# Altium schematic symbol library TIDA-010086.SchLib: 12 symbols
Pins are listed as number, name and electrical type; pins without a type are passive.

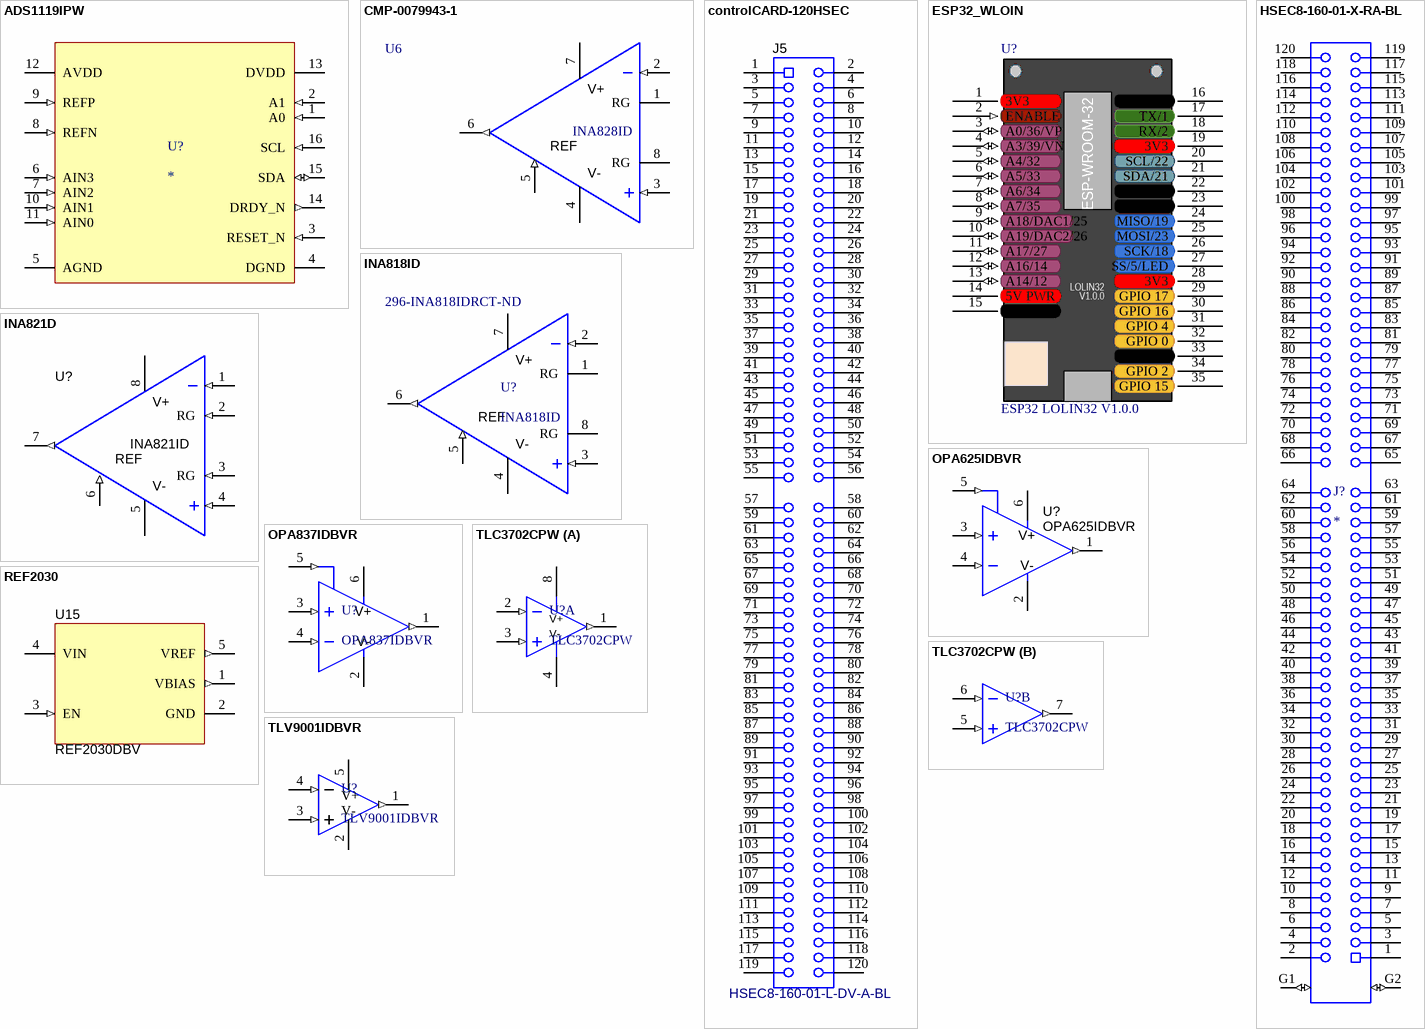
[diagram p0: symbols ADS1119IPW to TLV9001IDBVR]

## ADS1119IPW
designator U?
No Description Available; Manufacturer: Texas Instruments; PartNumber: ADS1119IPWR; RefDes: RefDes; Type: DEV; Value: Value; Copyright: Copyright (C) 2018 Accelerated Designs. All rights reserved
footprint PW0016A_N
footprint PW0016A_M
footprint PW0016A_L
pins: 1 A0 (in), 2 A1 (in), 3 RESET_N (in), 4 DGND (power), 5 AGND (power), 6 AIN3 (in), 7 AIN2 (in), 8 REFN (in), 9 REFP (in), 10 AIN1 (in), 11 AIN0 (in), 12 AVDD (power), 13 DVDD (power), 14 DRDY_N (out), 15 SDA (io), 16 SCL (in)

## CMP-0079943-1
designator U6, comment INA828ID
50-uV Offset, 7-nV/√Hz Noise, Low-Power, Precision Instrumentation Amplifier, D0008A (SOIC-8); Alternate PartNumber: INA828IDR; Alternate Manufacturer: Texas Instruments; SizeAreaWB_mm2: 56.58; SizeZ_mm: 1.75; SizeX_mm: 4.9; SizeY_mm: 6.2; SizeArea_mm2: 30.38; CompType: IC; AEC Qualified: N; AEC Category: Q200; ComponentLink1URL: http://www.ti.com/lit/ds/symlink/ina828.pdf; PackageDescription: SOIC-8; RoHS: Y; MountType: SMT; ComponentLink2URL: http://www.ti.com/product/ina828; ComponentLink3Description: Online Datasheet; ComponentLink2Description: Product Folder; Manufacturer: Texas Instruments; ComponentLink3URL: http://www.ti.com/product/ina828/datasheet; PackageReference: D0008A; ComponentLink1Description: Datasheet Link; PartNumber: INA828ID
footprint D0008A_N
footprint D0008A_M (SOIC, 8-Leads, Body 4.9x3.9mm, Pitch 1.27mm, IPC Low Density)
footprint D0008A_L (SOIC, 8-Leads, Body 4.9x3.9mm, Pitch 1.27mm, IPC High Density)
pins: 1 RG, 2 IN- (in), 3 IN+ (in), 4 V- (power), 5 REF (in), 6 OUT (out), 7 V+ (power), 8 RG
1 alternate drawing of the same symbol

## controlCARD-120HSEC
designator J5, comment HSEC8-160-01-L-DV-A-BL
C2000 controlCARD-120HSEC connector, SMT; Manufacturer: Samtec; Note: The pin numbering does not match Samtec datasheet; ComponentLink1URL: http://www.samtec.com/ftppub/pdf/hsec8_dv.pdf; CompType: Connector; PackageReference: C2000 pin numbering; RoHS: Y; MountType: SMT; PartNumber: HSEC8-160-01-L-DV-A-BL; ComponentLink1Description: Datasheet Link
footprint controlCARD-120HSEC (Pads are not numbered according to Samtec datasheet.)
pins: 1, 2, 3, 4, 5, 6, 7, 8, 9, 10, 11, 12, 13, 14, 15, 16, 17, 18, 19, 20, 21, 22, 23, 24, 25, 26, 27, 28, 29, 30, 31, 32, 33, 34, 35, 36, 37, 38, 39, 40, 41, 42, 43, 44, 45, 46, 47, 48, 49, 50, 51, 52, 53, 54, 55, 56, 57, 58, 59, 60, 61, 62, 63, 64, 65, 66, 67, 68, 69, 70, 71, 72, 73, 74, 75, 76, 77, 78, 79, 80, 81, 82, 83, 84, 85, 86, 87, 88, 89, 90, 91, 92, 93, 94, 95, 96, 97, 98, 99, 100, 101, 102, 103, 104, 105, 106, 107, 108, 109, 110, 111, 112, 113, 114, 115, 116, 117, 118, 119, 120

## ESP32_WLOIN
designator U?, comment ESP32 LOLIN32 V1.0.0
footprint ESP32_LOLIN32_V1 (WeMos LOLIN32 ESP32 Module)
pins: 1 3V3 (power), 2 ENABLE (in) "GPIO 12, I2C1_SCA", 3 A0/36/VP (io) "TWI0_SCL, PA11", 4 A3/39/VN (io) "PA6", 5 A4/32 (io) "GND", 6 A5/33 (io) "PA01", 7 A6/34 (io) "PA00", 8 A7/35 (io) "PA03", 9 A18/DAC1/25 (io), 10 A19/DAC2/26 (io) "PA15", 11 A17/27 (io) "PA16", 12 A16/14 (io) "PA14", 13 A14/12 (io) "GND", 14 5V PWR (power), 15 GND (power), 16 GND (power), 17 TX/1 (power), 18 RX/2 (power), 19 3V3 (power), 20 SCL/22 (power), 21 SDA/21 (power), 22 GND (power), 23 GND (power), 24 MISO/19 (power), 25 MOSI/23 (power), 26 SCK/18 (power), 27 SS/5/LED (power), 28 3V3 (power), 29 GPIO 17 (power), 30 GPIO 16 (power), 31 GPIO 4 (power), 32 GPIO 0 (power), 33 GND (power), 34 GPIO 2 (power), 35 GPIO 15 (power)
text: ESP-WROOM-32; LOLIN32; V1.0.0

## HSEC8-160-01-X-RA-BL
designator J?
0.8MM HIGH SPEED ASSEMBLY.; MP: HSEC8-160-01-X-RA-BL; Package: None; Price: None; Value: *; Availability: Unavailable
footprint HSEC8-160-01-X-RA-BL
pins: 1, 2, 3, 4, 5, 6, 7, 8, 9, 10, 11, 12, 13, 14, 15, 16, 17, 18, 19, 20, 21, 22, 23, 24, 25, 26, 27, 28, 29, 30, 31, 32, 33, 34, 35, 36, 37, 38, 39, 40, 41, 42, 43, 44, 45, 46, 47, 48, 49, 50, 51, 52, 53, 54, 55, 56, 57, 58, 59, 60, 61, 62, 63, 64, 65, 66, 67, 68, 69, 70, 71, 72, 73, 74, 75, 76, 77, 78, 79, 80, 81, 82, 83, 84, 85, 86, 87, 88, 89, 90, 91, 92, 93, 94, 95, 96, 97, 98, 99, 100, 101, 102, 103, 104, 105, 106, 107, 108, 109, 110, 111, 112, 113, 114, 115, 116, 117, 118, 119, 120, G1 121 (io), G2 122 (io)

## INA818ID
designator U?  Supplier Part Number 1: 296-INA818IDRCT-ND
Noise Low-Power Precision Instrumentation Amplifier 35uV Offset 8nV/√Hz 8-Pin SOIC T/R; Manufacturer Part Number: INA818IDR; SourceLibrary: TI_2020-04-29; Built_By: EMA_Rebekah; Vendor: Texas Instruments; Copyright: Copyright (C) 2018 Accelerated Designs. All rights reserved; Manufacturer_Part_Number: INA818ID; RefDes: RefDes; Type: DEV; Supplier 1: Digi-Key; Manufacturer: Texas Instruments; RoHS: No; Category: Amplifiers - Op Amps, Buffer, Instrumentation; Stock 1: 3157; Pricing 1: 1=4.78000, 10=4.29400, 25=4.05920, 100=3.33740, 250=2.99464, 500=2.88640, 1000=2.39932 (USD)
footprint SOIC-8_TEX
footprint SOIC-8_TEX-L
footprint SOIC-8_TEX-M
pins: 1 RG, 2 IN- (in), 3 IN+ (in), 4 V- (power), 5 REF (in), 6 OUT (out), 7 V+ (power), 8 RG

## INA821D
designator U?, comment INA821ID
4.7MHz, 35µV offset, 7nV/√Hz noise, low-power, super beta precision instrumentation amplifier, D0008A (SOIC-8); Manufacturer: Texas Instruments; SizeX_mm: 4.9; AEC Qualified: N; Rating: Catalog; CompType: IC; SizeArea_mm2: 30.38; AEC Category: Q200; SizeY_mm: 6.2; SizeAreaWB_mm2: 56.58; SizeZ_mm: 1.75; ComponentLink3Description: Online Datasheet; Operating Temperature Range: -40 to 125 C; PackageReference: D0008A; PackageDescription: SOIC-8; Alternate Manufacturer: Texas Instruments; ComponentLink2URL: http://www.ti.com/product/ina821; ComponentLink2Description: Product Folder; MountType: SMT; ComponentLink3URL: http://www.ti.com/product/ina821/datasheet; ComponentLink1Description: Datasheet Link; ComponentLink1URL: http://www.ti.com/lit/ds/symlink/ina821.pdf; PartNumber: INA821ID
footprint D0008A_N (SOIC, 8-Leads, Body 4.9x3.9mm, Pitch 1.27mm, IPC Medium Density)
footprint D0008A_M (SOIC, 8-Leads, Body 4.9x3.9mm, Pitch 1.27mm, IPC Low Density)
footprint D0008A_L (SOIC, 8-Leads, Body 4.9x3.9mm, Pitch 1.27mm, IPC High Density)
pins: 1 -IN (in), 2 RG (in), 3 RG (in), 4 +IN (in), 5 -VS (power), 6 REF (in), 7 OUT (out), 8 +VS (power)
text: V+; V-

## OPA625IDBVR
designator U?
High-Bandwidth, High-Precision, Low THD+N, 16-Bit and 18-Bit Analog-to-Digital Converter (ADC) Drivers, DBV0006A; Alternate PartNumber: OPA625IDBVT; Manufacturer: Texas Instruments; SymbolCreator: Altium; CompType: IC; U/M: EA; SymbolVersion: 2014-10-14; PartNumber: OPA625IDBVR; PackageReference: DBV0006A; MountType: SMT; ComponentLink1Description: Datasheet Link; ComponentLink1URL: http://www.ti.com/lit/ds/symlink/opa625.pdf; RoHS: Y; Publisher: Texas Instruments; LatestRevisionDate: 2015-07-09; Alternate Manufacturer: Texas Instruments
footprint DBV0006A_N (SOT23, 6-Leads, Body 2.9x1.6mm, Pitch 0.95mm, Lead Span 2.8mm, IPC Medium Density)
footprint DBV0006A_M
footprint DBV0006A_L
pins: 1 OUT (out), 2 V- (power), 3 IN+ (in), 4 IN- (in), 5 MODE (in), 6 V+ (power)

## OPA837IDBVR
designator U?
LOW POWER HIGH SPEED OP AMP; SourceLibrary: TI_2019-05-11; Built_By: EMA_Molly; Vendor: Texas Instruments; Slew Rate: 105V/µs; Number of Circuits: 1; Gain Bandwidth Product: 50MHz; Input Bias Current: 340nA; Input Offset Voltage (Vos): 30uV; Operating Supply Current: 592uA; Copyright: Copyright (C) 2018 Accelerated Designs. All rights reserved; Manufacturer_Part_Number: OPA837IDBVR; RefDes: RefDes; Type: DEV; Supplier 1: Digi-Key; Manufacturer: Texas Instruments; Manufacturer Part Number: OPA837IDBVR; RoHS: No; Category: Amplifiers - Op Amps, Buffer, Instrumentation; Stock 1: 491; Pricing 1: 1=2.28000, 10=2.05100, 25=1.93520, 100=1.54800, 250=1.35452, 500=1.31580, 1000=1.04490 (USD); Mount: Surface Mount; Case/Package: SOT-23-6; Min Operating Temperature: -40°C; Max Operating Temperature: 125°C; Packaging: Tape and Reel; Number of Channels: 1; ComponentLink1URL: http://www.ti.com/lit/ds/symlink/opa837.pdf?src-supplier=Digi-Key; ComponentLink1Description: http://www.ti.com/lit/ds/symlink/opa837.pdf?src-supplier=Digi-Key; Supplier Part Number 1: 296-49253-1-ND
footprint DBV6_TEX-M
footprint DBV6_TEX-L
footprint DBV6_TEX
pins: 1 OUT (out), 2 V- (power), 3 IN+ (in), 4 IN- (in), 5 MODE (in), 6 V+ (power)

## REF2030
designator U15, comment REF2030DBV
DUAL OUTPUT VOLTAGE REFERENCE 3V, DBV0005A (SOT-5); Manufacturer: Texas Instruments; SizeX_mm: 2.8; SizeY_mm: 2.9; CompType: IC; SizeZ_mm: 1.45; SizeArea_mm2: 8.12; SizeAreaWB_mm2: 14.82; U/M: EA; PackageDescription: SOT-5; ComponentLink1URL: https://sps06.itg.ti.com/sites/KMS/crossdivteams/altium/docs/ComponentDatasheets/REF20XX_DUAL OUTPUT .pdf; ComponentLink1Description: Datasheet Link; LatestRevisionDate: 2017-03-09; Publisher: Texas Instruments; RoHS: Y; PackageReference: DBV0005A; MountType: SMT; Alternate Manufacturer: Texas Instruments; PartNumber: REF2030DBV
footprint DBV0005A_N
footprint DBV0005A_L
footprint DBV0005A_M
pins: 1 VBIAS (out), 2 GND (power), 3 EN (in), 4 VIN (power), 5 VREF (out)

## TLC3702CPW
designator U?
Dual, Micropower, Push-Pull Outputs, LinCMOS(TM) Voltage Comparator; Manufacturer: Texas Instruments; INDUSTRY_STD_PKG_TYPE: TSSOP; PIN_COUNT: 8; PACKAGE_DESIGNATOR: PW; Datasheet_URL: http://www.ti.com/lit/gpn/TLC3702; FAMILY_NAME: COMPARATOR; GENERIC_PART_NUMBER: TLC3702; Vendor: Texas Instruments; Manufacturer_Part_Number: TLC3702CPW; Copyright: Copyright (C) 2018 Accelerated Designs. All rights reserved; RefDes: RefDes; Type: DEV
footprint PW8
footprint PW8-L
footprint PW8-L
part A pins: 1 1OUT (out), 2 1IN- (in), 3 1IN+ (in), 4 GND (power), 8 VDD (power)
part B pins: 5 2IN+ (in), 6 2IN- (in), 7 2OUT (out)
part A text: V+; V-

## TLV9001IDBVR
designator U?
Op Amp Single Low Power Amplifier R-R I/O ±2.75V/5.5V 5-Pin SOT-23 T/R; Manufacturer: Texas Instruments; Manufacturer Part Number: TLV9001UIDBVR; Number of Circuits: 1; Slew Rate: 2V/µs; Gain Bandwidth Product: 1MHz; Input Bias Current: 5pA; Input Offset Voltage (Vos): 400uV; Operating Supply Current: 60uA; Output Current per Channel: 40mA; PartNumber: TLV9001IDBVR; RefDes: RefDes; Type: DEV; Value: Value; Copyright: Copyright (C) 2018 Accelerated Designs. All rights reserved; Supplier 1: Digi-Key; RoHS: No; Stock 1: 1701; Pricing 1: 1=0.46000, 10=0.39800, 25=0.37120, 100=0.27560, 250=0.23320, 500=0.22260, 1000=0.16430 (USD); Mount: Surface Mount; Case/Package: SOT-23-6; Min Operating Temperature: -40°C; Max Operating Temperature: 125°C; Packaging: Tape and Reel; ComponentLink1URL: http://www.ti.com/lit/ds/symlink/tlv9001.pdf?src-supplier=Digi-Key; ComponentLink1Description: http://www.ti.com/lit/ds/symlink/tlv9001.pdf?src-supplier=Digi-Key; Supplier Part Number 1: 296-51825-1-ND
footprint DBV0005A_N
footprint DBV0005A_N
footprint DBV0005A_M
footprint DBV0005A_L
pins: 1 OUT (out), 2 V- (power), 3 IN+ (in), 4 IN- (in), 5 V+ (power)